# Altium schematic symbol library a4988.SchLib: 1 symbol
Pins are listed as number, name and electrical type; pins without a type are passive.

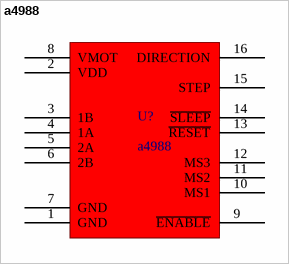
[diagram p0: symbol a4988]

## a4988
designator U?
footprint a4988
pins: 1 GND, 2 VDD, 3 1B, 4 1A, 5 2A, 6 2B, 7 GND, 8 VMOT, 9 ~{ENABLE}, 10 MS1, 11 MS2, 12 MS3, 13 ~{RESET}, 14 ~{SLEEP}, 15 STEP, 16 DIRECTION